# Altium footprint library SOIC_127P_L.PcbLib: 49 footprints (part 2 of 4)
Each footprint in its own frame and in the unit in brackets; x right, y up, seen from the top. Pads: shape width x height; smd on the part's side, far side on the other; paste and mask are expansions set on the pad; w line width, h text height; cw(c..) or ccw(c..) is an arc to the next point about the centre after c.
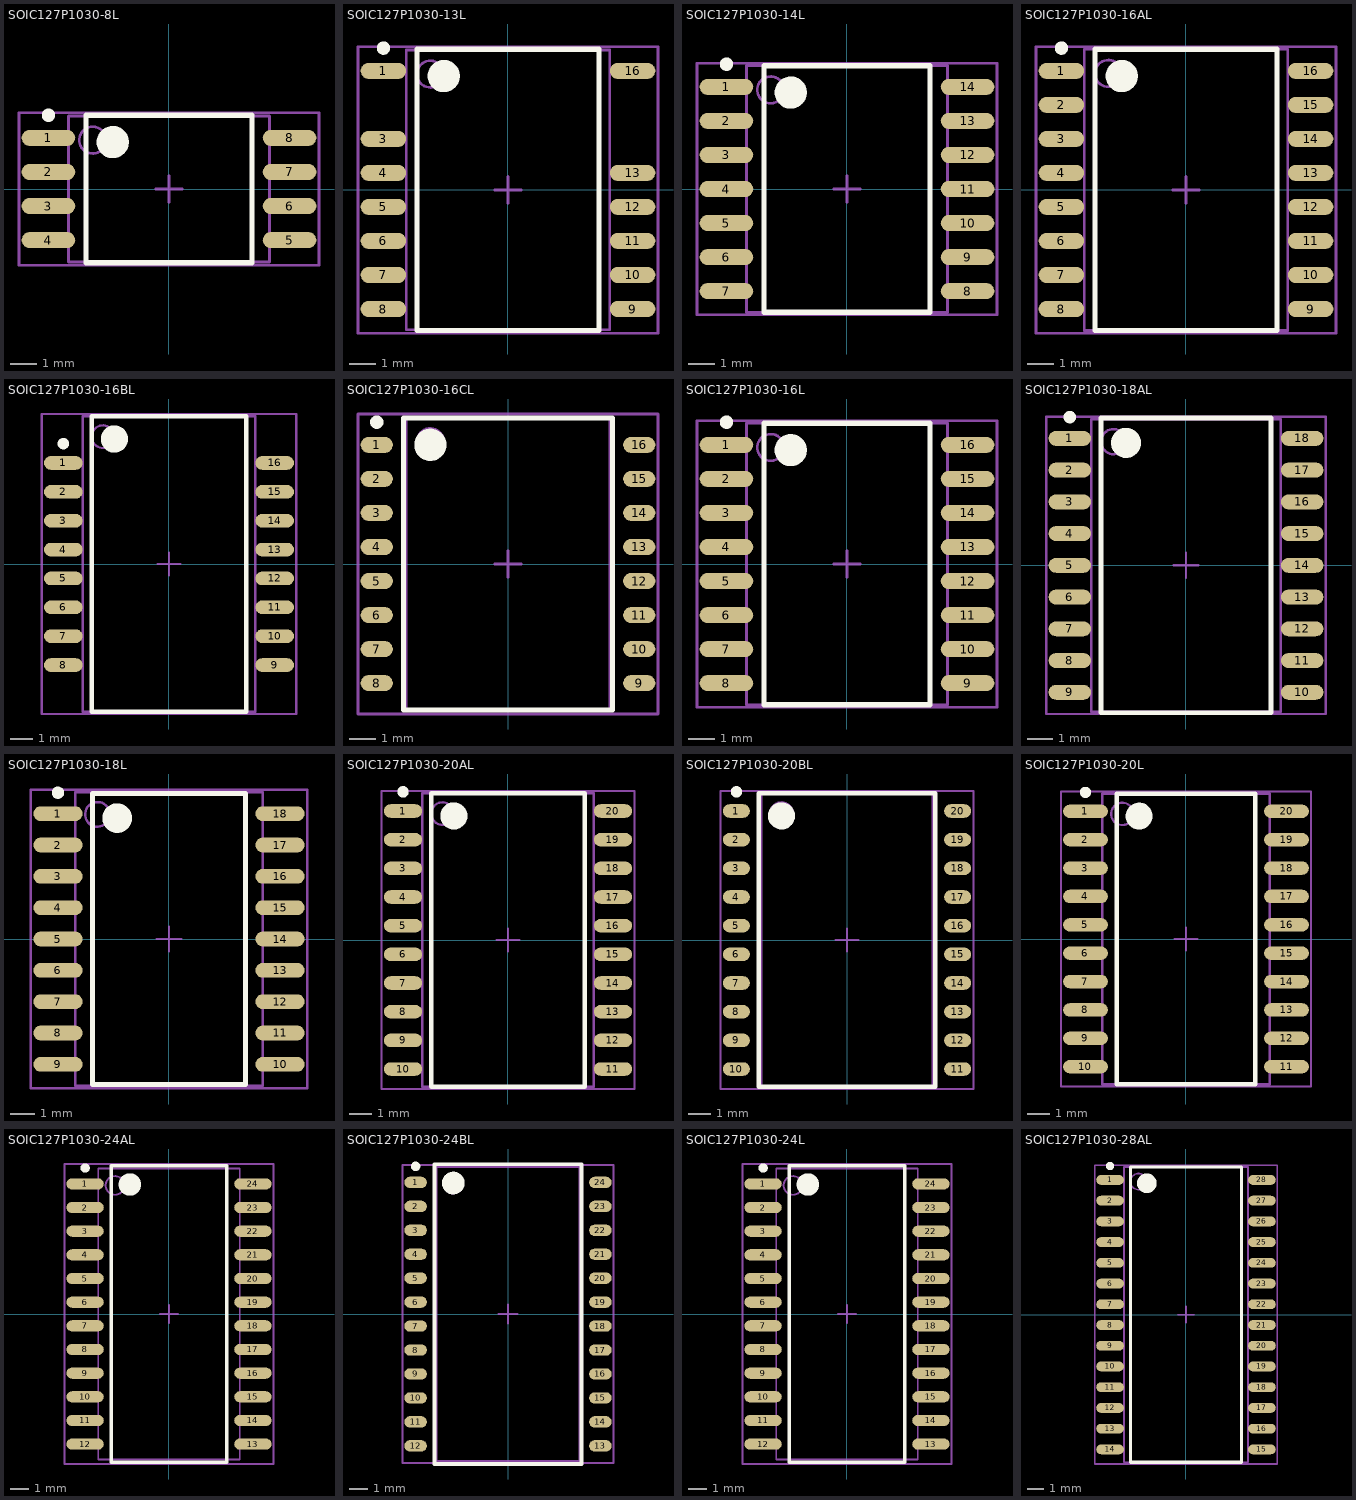
[diagram p1: the footprints below, top view; thin cyan lines are the x and y axes]

## SOIC127P1030-8L [mm] "SOIC, 8-Leads, Body 5.3x7.5mm, Pitch 1.27mm, IPC High Density"
height 2.65
pads (8):
  oval 2x0.6 smd: 1(-4.5,1.905) 2(-4.5,0.635) 3(-4.5,-0.635) 4(-4.5,-1.905) 5(4.5,-1.905) 6(4.5,-0.635) 7(4.5,0.635) 8(4.5,1.905)
Top Overlay:
  circle w0.25: c-4.5,2.755 r0.125
  circle w0.6: c-2.1,1.75 r0.3
  lines w0.2: -3.1,-2.75 -3.1,2.75 3.1,2.75 3.1,-2.75 -3.1,-2.75
Mechanical 13:
  circle w0.1: c-2.85,1.825 r0.5
  lines w0.1: -3.75,-2.725 -3.75,2.725 3.75,2.725 3.75,-2.725 -3.75,-2.725
Mechanical 15:
  lines w0.1: -0.5,0 0.5,0 ; 0,-0.5 0,0.5 ; -5.6,-2.85 -5.6,2.85 5.6,2.85 5.6,-2.85 -5.6,-2.85
3D body: height 2.65, standoff 0, extent -3.75,-2.725 3.75,2.725

## SOIC127P1030-13L [mm] "SOIC, 16-Leads (3 Absent), Body 10.3x7.5 mm, Pitch 1.27mm, IPC High Density"
height 2.65
pads (13):
  oval 1.7x0.6 smd: 1(-4.65,4.445) 3(-4.65,1.905) 4(-4.65,0.635) 5(-4.65,-0.635) 6(-4.65,-1.905) 7(-4.65,-3.175) 8(-4.65,-4.445) 9(4.65,-4.445) 10(4.65,-3.175) 11(4.65,-1.905) 12(4.65,-0.635) 13(4.65,0.635) 16(4.65,4.445)
Top Overlay:
  circle w0.25: c-4.65,5.295 r0.125
  circle w0.6: c-2.4,4.25 r0.3
  lines w0.2: -3.4,-5.25 -3.4,5.25 3.4,5.25 3.4,-5.25 -3.4,-5.25
Mechanical 13:
  circle w0.1: c-2.9,4.325 r0.5
  lines w0.1: -3.8,-5.225 -3.8,5.225 3.8,5.225 3.8,-5.225 -3.8,-5.225
Mechanical 15:
  lines w0.1: -0.5,0 0.5,0 ; 0,-0.5 0,0.5 ; -5.6,-5.35 -5.6,5.35 5.6,5.35 5.6,-5.35 -5.6,-5.35
3D body: height 2.65, standoff 0, extent -3.8,-5.225 3.8,5.225

## SOIC127P1030-14L [mm] "SOIC, 14-Leads, Body 9x7.5mm, Pitch 1.27mm, IPC High Density"
height 2.65
pads (14):
  oval 2x0.6 smd: 1(-4.5,3.81) 2(-4.5,2.54) 3(-4.5,1.27) 4(-4.5,0) 5(-4.5,-1.27) 6(-4.5,-2.54) 7(-4.5,-3.81) 8(4.5,-3.81) 9(4.5,-2.54) 10(4.5,-1.27) 11(4.5,0) 12(4.5,1.27) 13(4.5,2.54) 14(4.5,3.81)
Top Overlay:
  circle w0.25: c-4.5,4.66 r0.125
  circle w0.6: c-2.1,3.6 r0.3
  lines w0.2: -3.1,-4.6 -3.1,4.6 3.1,4.6 3.1,-4.6 -3.1,-4.6
Mechanical 13:
  circle w0.1: c-2.85,3.7 r0.5
  lines w0.1: -3.75,-4.6 -3.75,4.6 3.75,4.6 3.75,-4.6 -3.75,-4.6
Mechanical 15:
  lines w0.1: -0.5,0 0.5,0 ; 0,-0.5 0,0.5 ; -5.6,-4.7 -5.6,4.7 5.6,4.7 5.6,-4.7 -5.6,-4.7
3D body: height 2.65, standoff 0, extent -3.75,-4.6 3.75,4.6

## SOIC127P1030-16AL [mm] "SOIC, 16-Leads, Body 10.3x7.5mm, Pitch 1.27mm, IPC High Density"
height 2.67
pads (16):
  oval 1.7x0.6 smd: 1(-4.65,4.445) 2(-4.65,3.175) 3(-4.65,1.905) 4(-4.65,0.635) 5(-4.65,-0.635) 6(-4.65,-1.905) 7(-4.65,-3.175) 8(-4.65,-4.445) 9(4.65,-4.445) 10(4.65,-3.175) 11(4.65,-1.905) 12(4.65,-0.635) 13(4.65,0.635) 14(4.65,1.905) 15(4.65,3.175) 16(4.65,4.445)
Top Overlay:
  circle w0.25: c-4.65,5.295 r0.125
  circle w0.6: c-2.4,4.25 r0.3
  lines w0.2: -3.4,-5.25 -3.4,5.25 3.4,5.25 3.4,-5.25 -3.4,-5.25
Mechanical 13:
  circle w0.1: c-2.9,4.35 r0.5
  lines w0.1: -3.8,-5.25 -3.8,5.25 3.8,5.25 3.8,-5.25 -3.8,-5.25
Mechanical 15:
  lines w0.1: -0.5,0 0.5,0 ; 0,-0.5 0,0.5 ; -5.6,-5.35 -5.6,5.35 5.6,5.35 5.6,-5.35 -5.6,-5.35
3D body: height 2.67, standoff 0, extent -3.8,-5.25 3.8,5.25

## SOIC127P1030-16BL [mm] "SOIC, 16-Leads, Body 12.8x7.5mm, Pitch 1.27mm, IPC High Density"
height 2.68
pads (16):
  oval 1.7x0.6 smd: 1(-4.65,4.445) 2(-4.65,3.175) 3(-4.65,1.905) 4(-4.65,0.635) 5(-4.65,-0.635) 6(-4.65,-1.905) 7(-4.65,-3.175) 8(-4.65,-4.445) 9(4.65,-4.445) 10(4.65,-3.175) 11(4.65,-1.905) 12(4.65,-0.635) 13(4.65,0.635) 14(4.65,1.905) 15(4.65,3.175) 16(4.65,4.445)
Top Overlay:
  circle w0.6: c-2.4,5.5 r0.3
  circle w0.25: c-4.65,5.295 r0.125
  lines w0.2: -3.4,-6.5 3.4,-6.5 3.4,6.5 -3.4,6.5 -3.4,-6.5
Mechanical 13:
  circle w0.1: c-2.9,5.6 r0.5
  lines w0.1: -3.8,-6.5 3.8,-6.5 3.8,6.5 -3.8,6.5 -3.8,-6.5
Mechanical 15:
  lines w0.1: -0.5,0 0.5,0 ; 0,-0.5 0,0.5 ; -5.6,-6.6 5.6,-6.6 5.6,6.6 -5.6,6.6 -5.6,-6.6
3D body: height 2.68, standoff 0, extent -3.8,-6.5 3.8,6.5

## SOIC127P1030-16CL [mm] "SOIC, 16-Leads, Body 10.5x7.5mm, Pitch 1.27mm, IPC High Density"
height 2.65
pads (16):
  oval 1.2x0.6 smd: 1(-4.9,4.445) 2(-4.9,3.175) 3(-4.9,1.905) 4(-4.9,0.635) 5(-4.9,-0.635) 6(-4.9,-1.905) 7(-4.9,-3.175) 8(-4.9,-4.445) 9(4.9,-4.445) 10(4.9,-3.175) 11(4.9,-1.905) 12(4.9,-0.635) 13(4.9,0.635) 14(4.9,1.905) 15(4.9,3.175) 16(4.9,4.445)
Top Overlay:
  circle w0.25: c-4.9,5.295 r0.125
  circle w0.6: c-2.9,4.45 r0.3
  lines w0.2: -3.9,-5.45 -3.9,5.45 3.9,5.45 3.9,-5.45 -3.9,-5.45
Mechanical 13:
  circle w0.1: c-2.9,4.56 r0.5
  lines w0.1: -3.8,-5.46 -3.8,5.46 3.8,5.46 3.8,-5.46 -3.8,-5.46
Mechanical 15:
  lines w0.1: -0.5,0 0.5,0 ; 0,-0.5 0,0.5 ; -5.6,-5.6 -5.6,5.6 5.6,5.6 5.6,-5.6 -5.6,-5.6
3D body: height 2.65, standoff 0, extent -3.8,-5.46 3.8,5.46

## SOIC127P1030-16L [mm] "SOIC, 16-Leads, Body 10.3x7.5mm, Pitch 1.27mm, IPC High Density"
height 2.65
pads (16):
  oval 2x0.6 smd: 1(-4.5,4.445) 2(-4.5,3.175) 3(-4.5,1.905) 4(-4.5,0.635) 5(-4.5,-0.635) 6(-4.5,-1.905) 7(-4.5,-3.175) 8(-4.5,-4.445) 9(4.5,-4.445) 10(4.5,-3.175) 11(4.5,-1.905) 12(4.5,-0.635) 13(4.5,0.635) 14(4.5,1.905) 15(4.5,3.175) 16(4.5,4.445)
Top Overlay:
  circle w0.25: c-4.5,5.295 r0.125
  circle w0.6: c-2.1,4.25 r0.3
  lines w0.2: -3.1,-5.25 -3.1,5.25 3.1,5.25 3.1,-5.25 -3.1,-5.25
Mechanical 13:
  circle w0.1: c-2.85,4.35 r0.5
  lines w0.1: -3.75,-5.25 -3.75,5.25 3.75,5.25 3.75,-5.25 -3.75,-5.25
Mechanical 15:
  lines w0.1: -0.5,0 0.5,0 ; 0,-0.5 0,0.5 ; -5.6,-5.35 -5.6,5.35 5.6,5.35 5.6,-5.35 -5.6,-5.35
3D body: height 2.65, standoff 0, extent -3.75,-5.25 3.75,5.25

## SOIC127P1030-18AL [mm] "SOIC, 18-Leads, Body 11.6x7.5mm, Pitch 1.27mm, IPC High Density"
height 2.65
pads (18):
  oval 1.7x0.6 smd: 1(-4.65,5.08) 2(-4.65,3.81) 3(-4.65,2.54) 4(-4.65,1.27) 5(-4.65,0) 6(-4.65,-1.27) 7(-4.65,-2.54) 8(-4.65,-3.81) 9(-4.65,-5.08) 10(4.65,-5.08) 11(4.65,-3.81) 12(4.65,-2.54) 13(4.65,-1.27) 14(4.65,0) 15(4.65,1.27) 16(4.65,2.54) 17(4.65,3.81) 18(4.65,5.08)
Top Overlay:
  circle w0.25: c-4.65,5.93 r0.125
  circle w0.6: c-2.4,4.9 r0.3
  lines w0.2: -3.4,-5.9 -3.4,5.9 3.4,5.9 3.4,-5.9 -3.4,-5.9
Mechanical 13:
  circle w0.1: c-2.9,4.95 r0.5
  lines w0.1: -3.8,-5.85 -3.8,5.85 3.8,5.85 3.8,-5.85 -3.8,-5.85
Mechanical 15:
  lines w0.1: -0.5,0 0.5,0 ; 0,-0.5 0,0.5 ; -5.6,-5.95 -5.6,5.95 5.6,5.95 5.6,-5.95 -5.6,-5.95
3D body: height 2.65, standoff 0, extent -3.8,-5.85 3.8,5.85

## SOIC127P1030-18L [mm] "SOIC, 18-Leads, Body 11.6x7.5mm, Pitch 1.27mm, IPC High Density"
height 2.65
pads (18):
  oval 2x0.6 smd: 1(-4.5,5.08) 2(-4.5,3.81) 3(-4.5,2.54) 4(-4.5,1.27) 5(-4.5,0) 6(-4.5,-1.27) 7(-4.5,-2.54) 8(-4.5,-3.81) 9(-4.5,-5.08) 10(4.5,-5.08) 11(4.5,-3.81) 12(4.5,-2.54) 13(4.5,-1.27) 14(4.5,0) 15(4.5,1.27) 16(4.5,2.54) 17(4.5,3.81) 18(4.5,5.08)
Top Overlay:
  circle w0.25: c-4.5,5.93 r0.125
  circle w0.6: c-2.1,4.9 r0.3
  lines w0.2: -3.1,-5.9 -3.1,5.9 3.1,5.9 3.1,-5.9 -3.1,-5.9
Mechanical 13:
  circle w0.1: c-2.9,5.05 r0.5
  lines w0.1: -3.8,-5.95 -3.8,5.95 3.8,5.95 3.8,-5.95 -3.8,-5.95
Mechanical 15:
  lines w0.1: -0.5,0 0.5,0 ; 0,-0.5 0,0.5 ; -5.6,-6.05 -5.6,6.05 5.6,6.05 5.6,-6.05 -5.6,-6.05
3D body: height 2.65, standoff 0, extent -3.8,-5.95 3.8,5.95

## SOIC127P1030-20AL [mm] "SOIC, 20-Leads, Body 12.8x7.5mm, Pitch 1.27mm, IPC High Density"
height 2.67
pads (20):
  oval 1.7x0.6 smd: 1(-4.65,5.715) 2(-4.65,4.445) 3(-4.65,3.175) 4(-4.65,1.905) 5(-4.65,0.635) 6(-4.65,-0.635) 7(-4.65,-1.905) 8(-4.65,-3.175) 9(-4.65,-4.445) 10(-4.65,-5.715) 11(4.65,-5.715) 12(4.65,-4.445) 13(4.65,-3.175) 14(4.65,-1.905) 15(4.65,-0.635) 16(4.65,0.635) 17(4.65,1.905) 18(4.65,3.175) 19(4.65,4.445) 20(4.65,5.715)
Top Overlay:
  circle w0.25: c-4.65,6.565 r0.125
  circle w0.6: c-2.4,5.5 r0.3
  lines w0.2: -3.4,-6.5 -3.4,6.5 3.4,6.5 3.4,-6.5 -3.4,-6.5
Mechanical 13:
  circle w0.1: c-2.9,5.6 r0.5
  lines w0.1: -3.8,-6.5 -3.8,6.5 3.8,6.5 3.8,-6.5 -3.8,-6.5
Mechanical 15:
  lines w0.1: -0.5,0 0.5,0 ; 0,-0.5 0,0.5 ; -5.6,-6.6 -5.6,6.6 5.6,6.6 5.6,-6.6 -5.6,-6.6
3D body: height 2.67, standoff 0, extent -3.8,-6.5 3.8,6.5

## SOIC127P1030-20BL [mm] "SOIC, 20-Leads, Body 12.8x7.5mm, Pitch 1.27mm, IPC High Density"
height 2.65
pads (20):
  oval 1.2x0.6 smd: 1(-4.9,5.715) 2(-4.9,4.445) 3(-4.9,3.175) 4(-4.9,1.905) 5(-4.9,0.635) 6(-4.9,-0.635) 7(-4.9,-1.905) 8(-4.9,-3.175) 9(-4.9,-4.445) 10(-4.9,-5.715) 11(4.9,-5.715) 12(4.9,-4.445) 13(4.9,-3.175) 14(4.9,-1.905) 15(4.9,-0.635) 16(4.9,0.635) 17(4.9,1.905) 18(4.9,3.175) 19(4.9,4.445) 20(4.9,5.715)
Top Overlay:
  circle w0.25: c-4.9,6.565 r0.125
  circle w0.6: c-2.9,5.5 r0.3
  lines w0.2: -3.9,-6.5 -3.9,6.5 3.9,6.5 3.9,-6.5 -3.9,-6.5
Mechanical 13:
  circle w0.1: c-2.9,5.6 r0.5
  lines w0.1: -3.8,-6.5 -3.8,6.5 3.8,6.5 3.8,-6.5 -3.8,-6.5
Mechanical 15:
  lines w0.1: -0.5,0 0.5,0 ; 0,-0.5 0,0.5 ; -5.6,-6.6 -5.6,6.6 5.6,6.6 5.6,-6.6 -5.6,-6.6
3D body: height 2.65, standoff 0, extent -3.8,-6.5 3.8,6.5

## SOIC127P1030-20L [mm] "SOIC, 20-Leads, Body 12.8x7.5mm, Pitch 1.27mm, IPC High Density"
height 2.65
pads (20):
  oval 2x0.6 smd: 1(-4.5,5.715) 2(-4.5,4.445) 3(-4.5,3.175) 4(-4.5,1.905) 5(-4.5,0.635) 6(-4.5,-0.635) 7(-4.5,-1.905) 8(-4.5,-3.175) 9(-4.5,-4.445) 10(-4.5,-5.715) 11(4.5,-5.715) 12(4.5,-4.445) 13(4.5,-3.175) 14(4.5,-1.905) 15(4.5,-0.635) 16(4.5,0.635) 17(4.5,1.905) 18(4.5,3.175) 19(4.5,4.445) 20(4.5,5.715)
Top Overlay:
  circle w0.25: c-4.5,6.565 r0.125
  circle w0.6: c-2.1,5.5 r0.3
  lines w0.2: -3.1,-6.5 -3.1,6.5 3.1,6.5 3.1,-6.5 -3.1,-6.5
Mechanical 13:
  circle w0.1: c-2.85,5.6 r0.5
  lines w0.1: -3.75,-6.5 -3.75,6.5 3.75,6.5 3.75,-6.5 -3.75,-6.5
Mechanical 15:
  lines w0.1: -0.5,0 0.5,0 ; 0,-0.5 0,0.5 ; -5.6,-6.6 -5.6,6.6 5.6,6.6 5.6,-6.6 -5.6,-6.6
3D body: height 2.65, standoff 0, extent -3.75,-6.5 3.75,6.5

## SOIC127P1030-24AL [mm] "SOIC, 24-Leads, Body 15.4x7.5mm, Pitch 1.27mm, IPC High Density"
height 2.65
pads (24):
  oval 2x0.6 smd: 1(-4.5,6.985) 2(-4.5,5.715) 3(-4.5,4.445) 4(-4.5,3.175) 5(-4.5,1.905) 6(-4.5,0.635) 7(-4.5,-0.635) 8(-4.5,-1.905) 9(-4.5,-3.175) 10(-4.5,-4.445) 11(-4.5,-5.715) 12(-4.5,-6.985) 13(4.5,-6.985) 14(4.5,-5.715) 15(4.5,-4.445) 16(4.5,-3.175) 17(4.5,-1.905) 18(4.5,-0.635) 19(4.5,0.635) 20(4.5,1.905) 21(4.5,3.175) 22(4.5,4.445) 23(4.5,5.715) 24(4.5,6.985)
Top Overlay:
  circle w0.25: c-4.5,7.835 r0.125
  circle w0.6: c-2.1,6.95 r0.3
  lines w0.2: -3.1,-7.95 -3.1,7.95 3.1,7.95 3.1,-7.95 -3.1,-7.95
Mechanical 13:
  circle w0.1: c-2.9,6.9 r0.5
  lines w0.1: -3.8,-7.8 -3.8,7.8 3.8,7.8 3.8,-7.8 -3.8,-7.8
Mechanical 15:
  lines w0.1: -0.5,0 0.5,0 ; 0,-0.5 0,0.5 ; -5.6,-8.05 -5.6,8.05 5.6,8.05 5.6,-8.05 -5.6,-8.05
3D body: height 2.65, standoff 0, extent -3.8,-7.8 3.8,7.8

## SOIC127P1030-24BL [mm] "SOIC, 24-Leads, Body 15.4x7.5mm, Pitch 1.27mm, IPC High Density"
height 2.65
pads (24):
  oval 1.2x0.6 smd: 1(-4.9,6.985) 2(-4.9,5.715) 3(-4.9,4.445) 4(-4.9,3.175) 5(-4.9,1.905) 6(-4.9,0.635) 7(-4.9,-0.635) 8(-4.9,-1.905) 9(-4.9,-3.175) 10(-4.9,-4.445) 11(-4.9,-5.715) 12(-4.9,-6.985) 13(4.9,-6.985) 14(4.9,-5.715) 15(4.9,-4.445) 16(4.9,-3.175) 17(4.9,-1.905) 18(4.9,-0.635) 19(4.9,0.635) 20(4.9,1.905) 21(4.9,3.175) 22(4.9,4.445) 23(4.9,5.715) 24(4.9,6.985)
Top Overlay:
  circle w0.25: c-4.9,7.835 r0.125
  circle w0.6: c-2.9,6.95 r0.3
  lines w0.2: -3.9,-7.95 -3.9,7.95 3.9,7.95 3.9,-7.95 -3.9,-7.95
Mechanical 13:
  circle w0.1: c-2.9,6.9 r0.5
  lines w0.1: -3.8,-7.8 -3.8,7.8 3.8,7.8 3.8,-7.8 -3.8,-7.8
Mechanical 15:
  lines w0.1: -0.5,0 0.5,0 ; 0,-0.5 0,0.5 ; -5.6,-7.9 -5.6,7.9 5.6,7.9 5.6,-7.9 -5.6,-7.9
3D body: height 2.65, standoff 0, extent -3.8,-7.8 3.8,7.8

## SOIC127P1030-24L [mm] "SOIC, 24-Leads, Body 15.4x7.5mm, Pitch 1.27mm, IPC High Density"
height 2.65
pads (24):
  oval 2x0.6 smd: 1(-4.5,6.985) 2(-4.5,5.715) 3(-4.5,4.445) 4(-4.5,3.175) 5(-4.5,1.905) 6(-4.5,0.635) 7(-4.5,-0.635) 8(-4.5,-1.905) 9(-4.5,-3.175) 10(-4.5,-4.445) 11(-4.5,-5.715) 12(-4.5,-6.985) 13(4.5,-6.985) 14(4.5,-5.715) 15(4.5,-4.445) 16(4.5,-3.175) 17(4.5,-1.905) 18(4.5,-0.635) 19(4.5,0.635) 20(4.5,1.905) 21(4.5,3.175) 22(4.5,4.445) 23(4.5,5.715) 24(4.5,6.985)
Top Overlay:
  circle w0.25: c-4.5,7.835 r0.125
  circle w0.6: c-2.1,6.95 r0.3
  lines w0.2: -3.1,-7.95 -3.1,7.95 3.1,7.95 3.1,-7.95 -3.1,-7.95
Mechanical 13:
  circle w0.1: c-2.9,6.9 r0.5
  lines w0.1: -3.8,-7.8 -3.8,7.8 3.8,7.8 3.8,-7.8 -3.8,-7.8
Mechanical 15:
  lines w0.1: -0.5,0 0.5,0 ; 0,-0.5 0,0.5 ; -5.6,-8.05 -5.6,8.05 5.6,8.05 5.6,-8.05 -5.6,-8.05
3D body: height 2.65, standoff 0, extent -3.8,-7.8 3.8,7.8

## SOIC127P1030-28AL [mm] "SOIC, 28-Leads, Body 17.9x7.5mm, Pitch 1.27mm, IPC High Density"
height 2.65
pads (28):
  oval 1.7x0.6 smd: 1(-4.65,8.255) 2(-4.65,6.985) 3(-4.65,5.715) 4(-4.65,4.445) 5(-4.65,3.175) 6(-4.65,1.905) 7(-4.65,0.635) 8(-4.65,-0.635) 9(-4.65,-1.905) 10(-4.65,-3.175) 11(-4.65,-4.445) 12(-4.65,-5.715) 13(-4.65,-6.985) 14(-4.65,-8.255) 15(4.65,-8.255) 16(4.65,-6.985) 17(4.65,-5.715) 18(4.65,-4.445) 19(4.65,-3.175) 20(4.65,-1.905) 21(4.65,-0.635) 22(4.65,0.635) 23(4.65,1.905) 24(4.65,3.175) 25(4.65,4.445) 26(4.65,5.715) 27(4.65,6.985) 28(4.65,8.255)
Top Overlay:
  circle w0.25: c-4.65,9.105 r0.125
  circle w0.6: c-2.4,8.05 r0.3
  lines w0.2: -3.4,-9.05 -3.4,9.05 3.4,9.05 3.4,-9.05 -3.4,-9.05
Mechanical 13:
  circle w0.1: c-2.9,8.15 r0.5
  lines w0.1: -3.8,-9.05 -3.8,9.05 3.8,9.05 3.8,-9.05 -3.8,-9.05
Mechanical 15:
  lines w0.1: -0.5,0 0.5,0 ; 0,-0.5 0,0.5 ; -5.6,-9.15 -5.6,9.15 5.6,9.15 5.6,-9.15 -5.6,-9.15
3D body: height 2.65, standoff 0, extent -3.8,-9.05 3.8,9.05